# EAGLE library part 47346-0001 (library Molex-47346-0001)
CONN RCPT 5POS MICRO USB R/A SMD
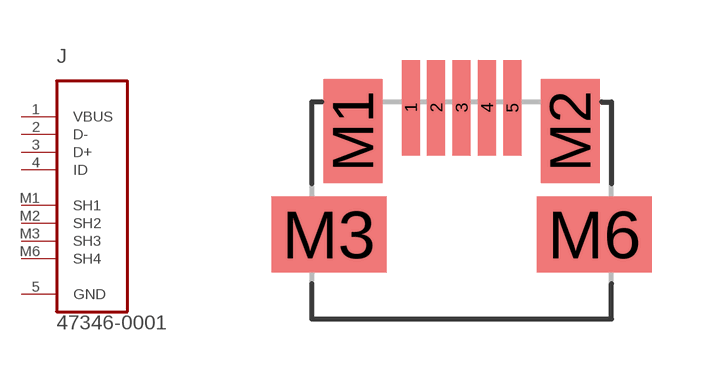
[diagram p0: symbol with the pads of MOLEX_47346-0001; footprint MOLEX_47346-0001]

Designator prefix J

## 47346-0001 (MPN: 47346-0001; OC_FARNELL: 1568026; OC_NEWARK: 47M0505; PACKAGE: 5 POS MICRO USB R/A; SUPPLIER: MOLEX)  [MOLEX_47346-0001]
1  VBUS  pwr
2  D-
3  D+
4  ID
5  GND  sup
M1  SH1
M2  SH2
M3  SH3
M6  SH4

## Footprint MOLEX_47346-0001 (pad centres in mm)
MICRO USB R/A-473460001
smd 0.45 x 2.388: 1 -1.27,0.508; 2 -0.635,0.508; 3 0,0.508; 4 0.635,0.508; 5 1.27,0.508
smd 1.475 x 2.6: M1 -2.718,-0.081; M2 2.718,-0.081
smd 2.875 x 1.9: M3 -3.321,-2.667; M6 3.321,-2.667